# EAGLE library part CONN_TALON (library GEMS_Plugs)
GEMS Connector for Talon Interface
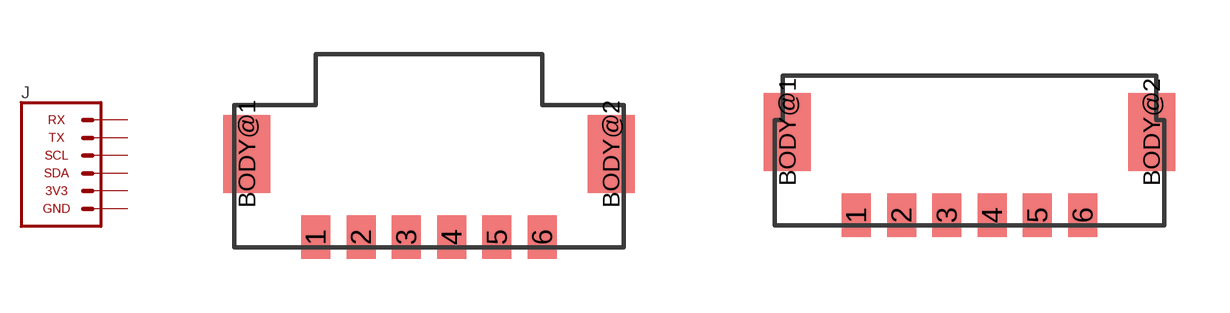
[diagram p0: symbol with the pads of 1X06_MICROLOCKPLUS; footprints 1X06_MICROLOCKPLUS, 1X06_MICROLOCKPLUS_RT]

Designator prefix J

## CONN_TALON_REMOTE (DIGIKEY: 900-2059570671CT-ND; DISP: Remote; MF: Molex; MPN: 2059570671)  [1X06_MICROLOCKPLUS]
1  GND  pas
2  3V3  pas
3  SDA  pas
4  SCL  pas
5  TX  pas
6  RX  pas

## CONN_TALON_LOGGER (DIGIKEY: WM22471CT-ND; DISP: Logger; MF: Molex; MPN: 5055670681)  [1X06_MICROLOCKPLUS_RT]
Pads as for 1X06_MICROLOCKPLUS

## CONN_TALON_LOGGER_VERT (DIGIKEY: 900-2059570671CT-ND; MF: Molex; MPN: 2059570671)  [1X06_MICROLOCKPLUS]
Pads as for 1X06_MICROLOCKPLUS

## Footprint 1X06_MICROLOCKPLUS (pad centres in mm)
Micro-Lock PLUS, 6 position, single row Datasheet <https://www.molex.com/pdm_docs/sd/2059570671_sd.pdf>
smd 0.8 x 1.2: 1 -3.125,-0.6; 2 -1.875,-0.6; 3 -0.625,-0.6; 4 0.625,-0.6; 5 1.875,-0.6; 6 3.125,-0.6
smd 1.3 x 2.15: BODY@1 -5.025,1.695; BODY@2 5.025,1.695

## Footprint 1X06_MICROLOCKPLUS_RT (pad centres in mm)
Micro-Lock PLUS, 6 position, single row, Right Angle Datasheet <https://www.molex.com/pdm_docs/sd/5055670681_sd.pdf>
smd 0.8 x 1.2: 1 -3.125,-0.6; 2 -1.875,-0.6; 3 -0.625,-0.6; 4 0.625,-0.6; 5 1.875,-0.6; 6 3.125,-0.6
smd 1.3 x 2.15: BODY@1 -5.025,1.695; BODY@2 5.025,1.695